# Altium footprint library SYSPCB_03.PCBLIB: 98 footprints (part 2 of 7)
Each footprint in its own frame and in the unit in brackets; x right, y up, seen from the top. Pads: shape width x height; smd on the part's side, far side on the other; paste and mask are expansions set on the pad; w line width, h text height; cw(c..) or ccw(c..) is an arc to the next point about the centre after c.
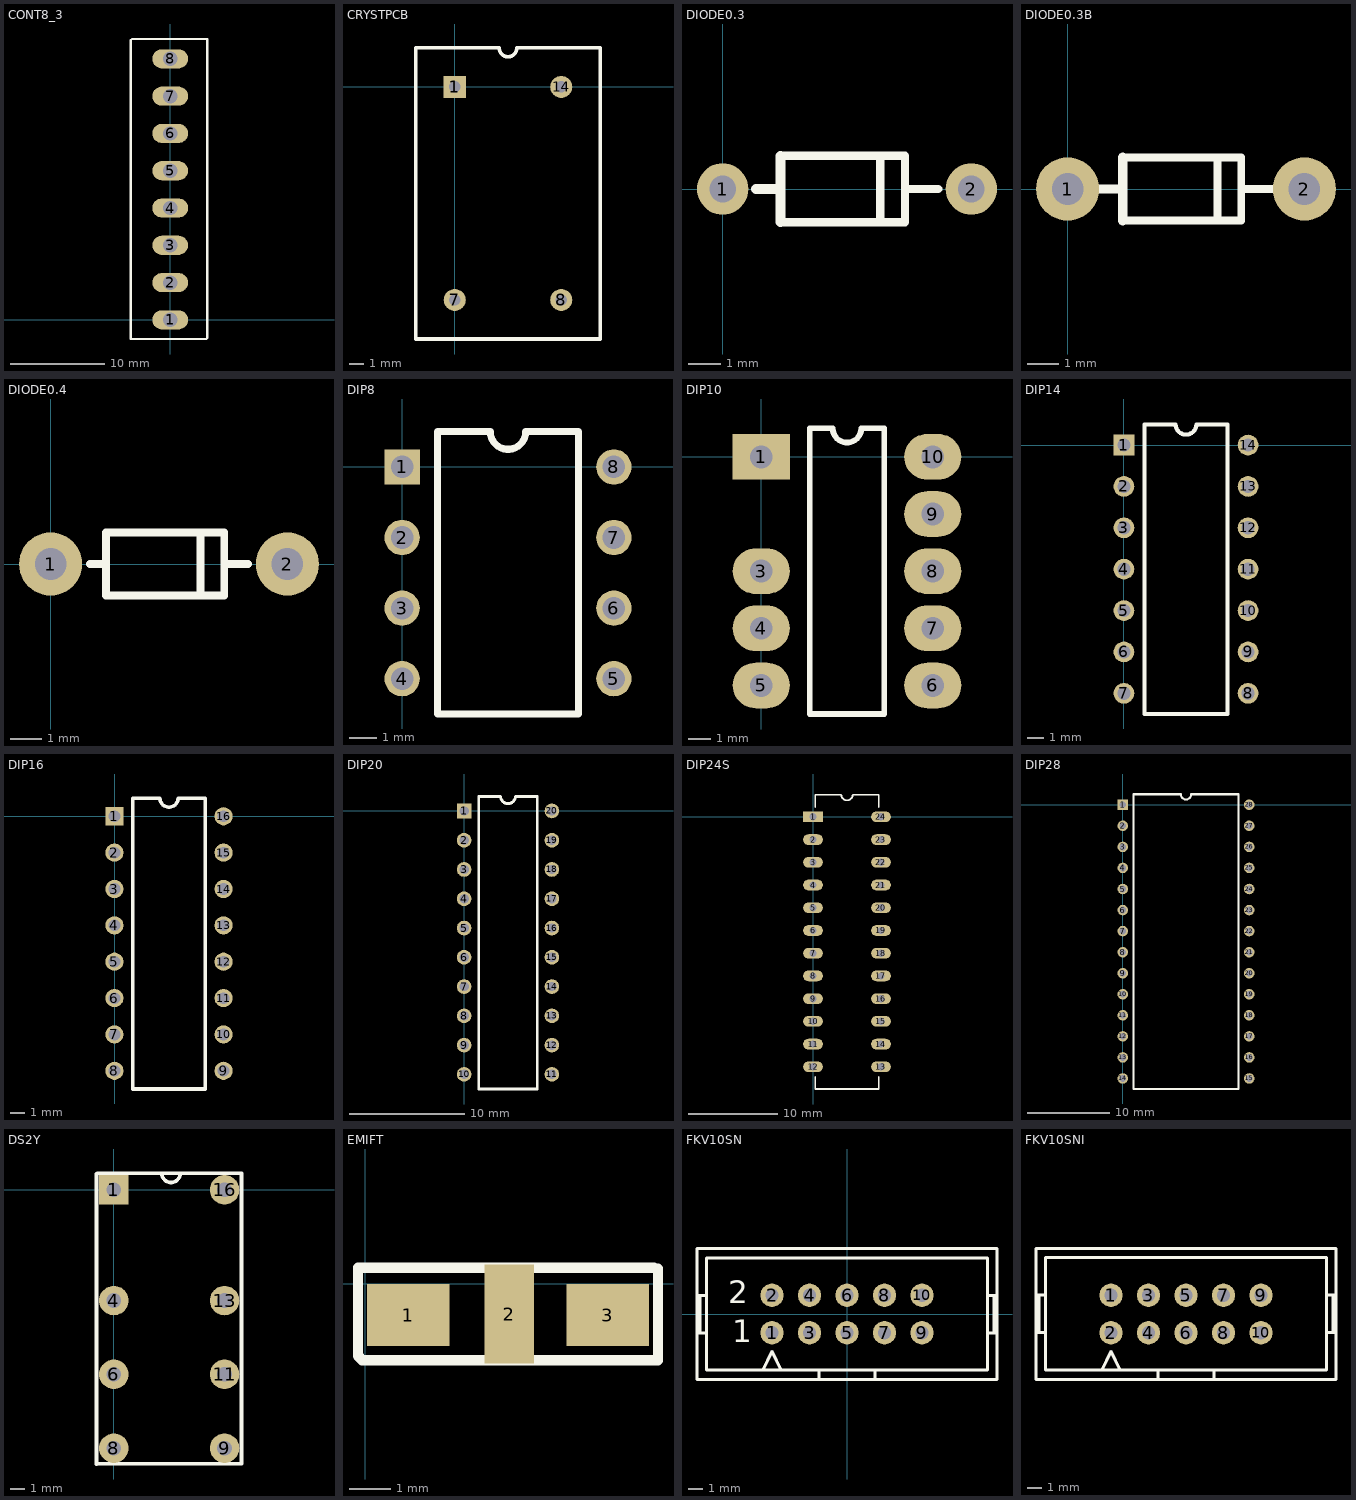
[diagram p1: the footprints below, top view; thin cyan lines are the x and y axes]

## CONT8_3 [mil]
pads (8):
  oval 150x80 hole 60: 1(0,0) 2(0,156) 3(0,312) 4(0,468) 5(0,624) 6(0,780) 7(0,936) 8(0,1092)
TopOverlay:
  lines w10: -165,545 -165,555 ; -165,1170 -165,700 -165,555 ; -160,1175 155,1175 155,700 155,555 ; 155,545 155,555 ; -165,555 -165,526 -165,0 -165,-80 151,-80 155,-76 155,-1 155,474 155,555

## CRYSTPCB [mil]
pads (4):
  rect 62x62 hole 32: 1(0.04,0.04)
  round 62 hole 32: 7(0.04,-599.96) 8(300.04,-599.96) 14(300.04,0.04)
TopOverlay:
  lines w10: -109.96,-709.96 410.04,-709.96 410.04,110.04 175.04,110.04 cw(c150.04,110.04) 125.04,110.04 -109.96,110.04 -109.96,-709.96

## DIODE0.3 [mil]
pads (2):
  round 62 hole 32: 1(0,0) 2(300,0)
TopOverlay:
  lines w10: 70,-40 220,-40 220,40 70,40 ; 190,-40 190,40 ; 220,0 260,0
  lines w12: 40,0 70,0 ; 70,-40 70,40

## DIODE0.3B [mil]
pads (2):
  round 80 hole 40: 1(0,0) 2(300,0)
TopOverlay:
  lines w10: 70,-40 220,-40 220,40 70,40 ; 190,-40 190,40 ; 220,0 260,0
  lines w12: 40,0 70,0 ; 70,-40 70,40

## DIODE0.4 [mil]
pads (2):
  round 80 hole 40: 1(0,0) 2(300,0)
TopOverlay:
  lines w10: 50,0 70,0 ; 190,-40 190,40 ; 220,0 250,0 ; 70,-40 70,40 220,40 220,-40 70,-40

## DIP8 [mil]
pads (8):
  rect 50x50 hole 32: 1(0,0)
  round 50 hole 32: 2(0,-100) 3(0,-200) 4(0,-300) 5(300,-300) 6(300,-200) 7(300,-100) 8(300,0)
TopOverlay:
  lines w10: 50,-350 250,-350 250,50 175,50 cw(c150,50) 125,50 50,50 50,-350

## DIP10 [mil]
pads (9):
  rect 100x80 hole 40: 1(0,0)
  oval 100x80 hole 40: 3(0,-200) 4(0,-300) 5(0,-400) 6(300,-400) 7(300,-300) 8(300,-200) 9(300,-100) 10(300,0)
TopOverlay:
  lines w10: 85,-450 215,-450 215,50 175,50 cw(c150,50) 125,50 85,50 85,-450

## DIP14 [mil]
pads (14):
  rect 50x50 hole 32: 1(0,0)
  round 50 hole 32: 2(0,-100) 3(0,-200) 4(0,-300) 5(0,-400) 6(0,-500) 7(0,-600) 8(300,-600) 9(300,-500) 10(300,-400) 11(300,-300) 12(300,-200) 13(300,-100) 14(300,0)
TopOverlay:
  lines w10: 50,-650 50,50 125,50 ccw(c150,50) 175,50 250,50 250,-650 50,-650

## DIP16 [mil]
pads (16):
  rect 50x50 hole 32: 1(-0.41,0.04)
  round 50 hole 32: 2(-0.41,-99.96) 3(-0.41,-199.96) 4(-0.41,-299.96) 5(-0.41,-399.96) 6(-0.41,-499.96) 7(-0.41,-599.96) 8(-0.41,-699.96) 9(299.59,-699.96) 10(299.59,-599.96) 11(299.59,-499.96) 12(299.59,-399.96) 13(299.59,-299.96) 14(299.59,-199.96) 15(299.59,-99.96) 16(299.59,0.04)
TopOverlay:
  lines w10: 49.59,-749.96 249.59,-749.96 249.59,50.04 174.59,50.04 cw(c149.59,50.04) 124.59,50.04 49.59,50.04 49.59,-749.96

## DIP20 [mil]
pads (20):
  rect 50x50 hole 32: 1(0,0)
  round 50 hole 32: 2(0,-100) 3(0,-200) 4(0,-300) 5(0,-400) 6(0,-500) 7(0,-600) 8(0,-700) 9(0,-800) 10(0,-900) 11(300,-900) 12(300,-800) 13(300,-700) 14(300,-600) 15(300,-500) 16(300,-400) 17(300,-300) 18(300,-200) 19(300,-100) 20(300,0)
TopOverlay:
  lines w10: 50,-950 250,-950 250,50 175,50 cw(c150,50) 125,50 50,50 50,-950

## DIP24S [mm]
pads (24):
  rect 2.2x1.2 hole 0.813: 1(0,0)
  oval 2.2x1.2 hole 0.813: 2(0,-2.54) 3(0,-5.08) 4(0,-7.62) 5(0,-10.16) 6(0,-12.7) 7(0,-15.24) 8(0,-17.78) 9(0,-20.32) 10(0,-22.86) 11(0,-25.4) 12(0,-27.94) 13(7.6,-27.94) 14(7.6,-25.4) 15(7.6,-22.86) 16(7.6,-20.32) 17(7.6,-17.78) 18(7.6,-15.24) 19(7.6,-12.7) 20(7.6,-10.16) 21(7.6,-7.62) 22(7.6,-5.08) 23(7.6,-2.54) 24(7.6,0)
TopOverlay:
  lines w0.2: 0.245,-29.04 0.245,-30.42 7.355,-30.42 7.355,-29.04 ; 0.245,1.1 0.245,2.48 3.165,2.48 ccw(c3.8,2.48) 4.435,2.48 7.355,2.48 7.355,1.1

## DIP28 [mil]
pads (28):
  rect 50x50 hole 32: 1(0,0)
  round 50 hole 32: 2(0,-100) 3(0,-200) 4(0,-300) 5(0,-400) 6(0,-500) 7(0,-600) 8(0,-700) 9(0,-800) 10(0,-900) 11(0,-1000) 12(0,-1100) 13(0,-1200) 14(0,-1300) 15(600,-1300) 16(600,-1200) 17(600,-1100) 18(600,-1000) 19(600,-900) 20(600,-800) 21(600,-700) 22(600,-600) 23(600,-500) 24(600,-400) 25(600,-300) 26(600,-200) 27(600,-100) 28(600,0)
TopOverlay:
  lines w10: 50,-1350 50,50 275,50 ccw(c300,50) 325,50 550,50 550,-1350 50,-1350

## DS2Y [mil]
pads (8):
  rect 80x80 hole 40: 1(0,0)
  round 80 hole 40: 4(0,-300) 6(0,-500) 8(0,-700) 9(300,-700) 11(300,-500) 13(300,-300) 16(300,0)
TopOverlay:
  lines w10: -47,-743 -47,43 ; -46,-742 346,-742 346,45 -45,45 ; -2,-2 0,0 ; 130,45 ccw(c155,45) 180,45

## EMIFT [mil]
pads (3):
  rect 78.74x59.06 smd: 1(41,-30) 3(231,-30)
  rect 47.24x94.49 smd: 2(137,-29)
TopOverlay:
  lines w10: -7,9 -7,15 ; -7,15 -7,-69 -3,-73 140,-73 279,-73 279,-64 279,14 275,15 -7,15

## FKV10SN [mil]
pads (10):
  round 62 hole 35: 1(-200,-50) 2(-200,50) 3(-100,-50) 4(-100,50) 5(0,-50) 6(0,50) 7(100,-50) 8(100,50) 9(200,-50) 10(200,50)
TopOverlay:
  lines w8: -400,-50 -375,-50 ; -400,50 -375,50 ; -391.67,-50 -391.67,50 ; -225,-150 -200,-100 -175,-150 ; -75,-175 -75,-150 ; 75,-175 75,-150 ; 375,-50 400,-50 ; 375,50 400,50 ; 391.67,-50 391.67,50 ; -75,-150 -375,-150 -375,150 375,150 375,-150 75,-150 ; -75,-150 75,-150 ; -400,-175 -400,175 400,175 400,-175 -400,-175
  text "2" at -317,29 h60
  text "1" at -306,-76 h60

## FKV10SNI [mil]
pads (10):
  round 62 hole 35: 1(-5220,12640) 2(-5220,12540) 3(-5120,12640) 4(-5120,12540) 5(-5020,12640) 6(-5020,12540) 7(-4920,12640) 8(-4920,12540) 9(-4820,12640) 10(-4820,12540)
TopOverlay:
  lines w8: -5420,12540 -5395,12540 ; -5420,12640 -5395,12640 ; -5411.67,12540 -5411.67,12640 ; -5245,12440 -5220,12490 -5195,12440 ; -5095,12415 -5095,12440 ; -4945,12415 -4945,12440 ; -4645,12540 -4620,12540 ; -4645,12640 -4620,12640 ; -4628.33,12540 -4628.33,12640 ; -5095,12440 -5395,12440 -5395,12740 -4645,12740 -4645,12440 -4945,12440 ; -5095,12440 -4945,12440 ; -5420,12415 -5420,12765 -4620,12765 -4620,12415 -5420,12415